# Altium integrated library Components - 01.03.25 - 17.19.IntLib: 1 symbol
Pins are listed as number, name and electrical type; pins without a type are passive.

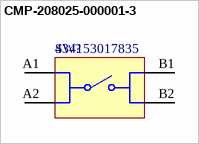
[diagram p0: symbol CMP-208025-000001-3]

## CMP-208025-000001-3
designator SW?, comment 434153017835
Tactile Switch, 0.05A, 12Vdc, 350Gf, Smd Rohs Compliant: Yes |Wurth Elektronik 434153017835; Switch Function: Off-Mom; Life (Cycles): 200kcycles; Actuator Material: Liquid Crystal Polymer, Polymer; Switch Travel: 150µm; Throw Configuration: SPST; Illumination Type: Non-Illuminated; Current Rating: 50mA; Insulation Resistance: 100MΩ; Voltage Rating: 12V; Max Operating Temperature: 85°C; Contact Plating: Silver; Packaging: Tape and Reel; Contact Current Rating: 50mA; Height: 1.7mm; Contact Resistance: 100mΩ; Mount: Surface Mount; Voltage Rating (DC): 12V; Mechanical Life: 200kcycles; Min Operating Temperature: -40°C; RoHS: Compliant
footprint 434153017835 (Tact Switch, SMD, body 3.5x2.9mm)
pins: A1, A2, B1, B2